# EAGLE library part L3GD20 (library aurigaBot)
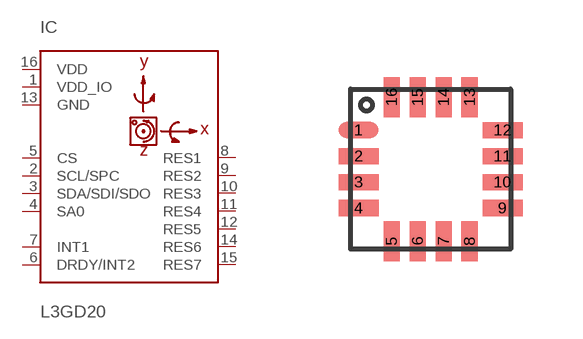
[diagram p16: symbol with the pads of LGA16; footprint LGA16]

Designator prefix IC

## L3GD20  [LGA16]
1  VDD_IO
2  SCL/SPC
3  SDA/SDI/SDO
4  SA0
5  CS
6  DRDY/INT2
7  INT1
8  RES1
9  RES2
10  RES3
11  RES4
12  RES5
13  GND
14  RES6
15  RES7
16  VDD

## Footprint LGA16 (pad centres in mm)
smd 1 x 0.4: 1 -1.8,0.975; 2 -1.8,0.325; 3 -1.8,-0.325; 4 -1.8,-0.975; 9 1.8,-0.975; 10 1.8,-0.325; 11 1.8,0.325; 12 1.8,0.975
smd 0.4 x 1: 5 -0.975,-1.8; 6 -0.325,-1.8; 7 0.325,-1.8; 8 0.975,-1.8; 13 0.975,1.8; 14 0.325,1.8; 15 -0.325,1.8; 16 -0.975,1.8